# Altium schematic symbol library MAG3110.SchLib: 1 symbol
Pins are listed as number, name and electrical type; pins without a type are passive.

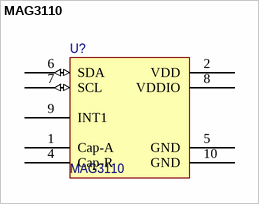
[diagram p0: symbol MAG3110]

## MAG3110
designator U?
Freescale MAG3110 3-axis magnetometer
footprint DFN40200X200X85-10N (QFN, 10-Leads, Body 2.00x2.00mm, Pitch 0.40mm, IPC Medium Density)
pins: 1 Cap-A, 2 VDD (power), 4 Cap-R, 5 GND (power), 6 SDA (io), 7 SCL (io), 8 VDDIO (power), 9 INT1 (power), 10 GND (power)
1 alternate drawing of the same symbol